# Altium footprint library neg5V.PcbLib: 9 footprints
Each footprint in its own frame and in the unit in brackets; x right, y up, seen from the top. Pads: shape width x height; smd on the part's side, far side on the other; paste and mask are expansions set on the pad; w line width, h text height; cw(c..) or ccw(c..) is an arc to the next point about the centre after c.
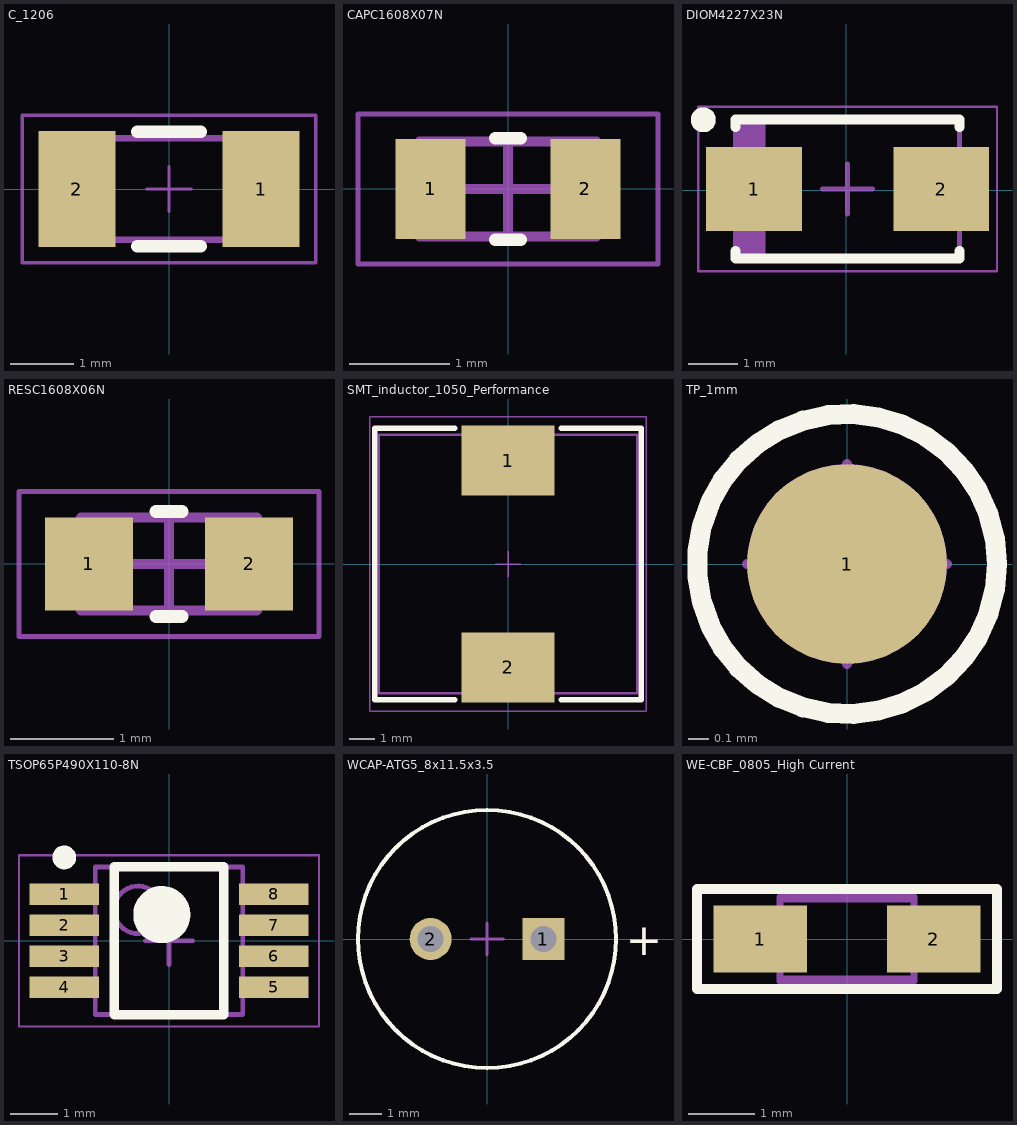
[diagram p0: the footprints below, top view; thin cyan lines are the x and y axes]

## C_1206 [mm]
height 1.8
pads (2):
  rect 1.21x1.82 smd: 1(1.45,0) 2(-1.45,0)
Top Overlay:
  lines w0.2: -0.5,-0.9 0.5,-0.9 ; -0.5,0.9 0.5,0.9
Mechanical 5:
  lines w0.1: -1.1,-0.8 -1.1,0.8 ; 1.1,-0.8 1.1,0.8 ; -1.6,-0.8 1.6,-0.8 1.6,0.8 -1.6,0.8 -1.6,-0.8
  text ".Designator" at 0,0 h1.02
Mechanical 15:
  lines w0.05: -0.35,0 0.35,0 ; 0,-0.35 0,0.35 ; -2.31,-1.16 2.31,-1.16 2.31,1.16 -2.31,1.16 -2.31,-1.16
3D body "User Library-CAPC3216X___CAPC3216X180N.STEP": height 1.82, standoff 0, extent -1.6,-0.81 1.6,0.81

## CAPC1608X07N [mm] "Chip Capacitor, 2-Leads, Body 1,60x0,80mm, IPC Medium Density"
height 0.7
pads (2):
  rect 0.7x1 smd: 1(-0.775,0) 2(0.775,0)
Top Overlay:
  lines w0.127: -0.127,-0.508 0.127,-0.508 ; -0.127,0.508 0.127,0.508
Mechanical 5:
  lines w0.1: -0.885,-0.475 -0.885,0.475 0.885,0.475 0.885,-0.475 -0.885,-0.475
  text ".Designator" at 0,0 h1.02
Mechanical 15:
  lines w0.05: -1.5,-0.75 1.5,-0.75 1.5,0.75 -1.5,0.75 -1.5,-0.75
  lines w0.1: -0.475,0 0.475,0 ; 0,-0.475 0,0.475
3D body: height 0.7, standoff 0, extent 0.435,-0.475 0.885,0.475
3D body: height 0.7, standoff 0, extent -0.885,-0.475 -0.435,0.475
3D body: height 0.7, standoff 0, extent -0.435,-0.475 0.435,0.475

## DIOM4227X23N [mm] "Molded Diode, 2-Leads, Body 4,25x2,67mm, IPC Medium Density"
pads (2):
  rect 1.92x1.68 smd: 1(-1.854,0.023) 2(1.906,0.023)
Top Overlay:
  circle w0.25: c-2.874,1.413 r0.125
  lines w0.2: -2.224,-1.217 -2.224,-1.377 2.276,-1.377 2.276,-1.217 ; -2.224,1.263 -2.224,1.423 2.276,1.423 2.276,1.263
Mechanical 5:
  circle w0.25: c-2.874,1.413 r0.125
  rectangle: -2.224,-1.372 -1.619,1.418
  lines w0.1: -2.224,-1.372 -2.224,1.418 2.276,1.418 2.276,-1.372 -2.224,-1.372
  text ".Designator" at 0,0 h1.02
Mechanical 15:
  lines w0.05: -2.974,-1.627 3.026,-1.627 3.026,1.673 -2.974,1.673 -2.974,-1.627
  lines w0.1: -0.474,0.023 0.526,0.023 ; 0.026,-0.477 0.026,0.523
3D body "DIOM4227X23N.step": height 2.29, standoff 0, extent -2.444,-1.372 2.496,1.418

## RESC1608X06N [mm] "Chip Resistor, 2-Leads, Body 1,60x0,80mm, IPC Medium Density"
height 0.55
pads (2):
  rect 0.85x0.9 smd: 1(-0.775,0) 2(0.775,0)
Top Overlay:
  lines w0.127: -0.127,-0.508 0.127,-0.508 ; -0.127,0.508 0.127,0.508
Mechanical 5:
  lines w0.1: -0.85,-0.45 -0.85,0.45 0.85,0.45 0.85,-0.45 -0.85,-0.45
  text ".Designator" at 0,0 h1.02
Mechanical 15:
  lines w0.05: -1.45,-0.7 -1.45,0.7 1.45,0.7 1.45,-0.7 -1.45,-0.7
  lines w0.1: -0.45,0 0.45,0 ; 0,-0.45 0,0.45
3D body "0603-Rchip.step": height 0.44, standoff -0.01, extent -0.8,-0.4 0.8,0.4

## SMT_inductor_1050_Performance [mm] "SMD Shielded Power Inductor, 2-leads, body 10.3x10.5mm"
height 5
pads (2):
  rect 3.6x2.7 smd: 1(0,4) 2(0,-4)
Top Overlay:
  lines w0.2: -2.05,-5.25 -5.15,-5.25 -5.15,5.25 -2.05,5.25 ; 2.05,-5.25 5.15,-5.25 5.15,5.25 2.05,5.25
Mechanical 5:
  lines w0.1: -5,-5 -5,5 5,5 5,-5 -5,-5
  text ".Designator" at 0,0 h1.02
Mechanical 15:
  lines w0.05: -0.5,0 0.5,0 ; 0,-0.5 0,0.5 ; -5.35,-5.7 -5.35,5.7 5.35,5.7 5.35,-5.7 -5.35,-5.7
3D body "7447714xx.stp": height 4.79, standoff -0.01, extent -5,-5 5,5

## TP_1mm [mm]
pads (1):
  round 1 smd paste-1: 1(0,0)
Top Overlay:
  circle w0.1: c0,0 r0.75
  text ".Comment" at 1.2,-0.7 h1.52
Mechanical 5:
  circle w0.6: c0,0 r0.2
  text ".Designator" at 0,0 h1.02
Mechanical 15:
  circle w0.05: c0,0 r0.75
  lines w0.05: -0.5,0 0.5,0 ; 0,-0.5 0,0.5

## TSOP65P490X110-8N [mm] "TSOP, 8-Leads, Body 3,00x3,00mm, Pitch 0,65mm, IPC Medium Density"
height 1.1
pads (8):
  rect 1.45x0.45 smd: 1(-2.2,0.975) 2(-2.2,0.325) 3(-2.2,-0.325) 4(-2.2,-0.975) 5(2.2,-0.975) 6(2.2,-0.325) 7(2.2,0.325) 8(2.2,0.975)
Top Overlay:
  circle w0.6: c-0.15,0.55 r0.3
  circle w0.25: c-2.2,1.75 r0.125
  lines w0.2: -1.15,-1.55 1.15,-1.55 1.15,1.55 -1.15,1.55 -1.15,-1.55
Mechanical 5:
  circle w0.1: c-0.65,0.65 r0.5
  lines w0.1: -1.55,-1.55 1.55,-1.55 1.55,1.55 -1.55,1.55 -1.55,-1.55
  text ".Designator" at 0,0 h1.02
Mechanical 15:
  lines w0.05: -3.15,-1.8 3.15,-1.8 3.15,1.8 -3.15,1.8 -3.15,-1.8
  lines w0.1: -0.5,0 0.5,0 ; 0,-0.5 0,0.5
3D body: height 1.1, standoff 0.1, extent -1.55,-1.55 1.55,1.55

## WCAP-ATG5_8x11.5x3.5 [mm] "Aluminum Electrolytic Capacitors, 8x11.5mm"
height 11.5
pads (2):
  rect 1.3x1.3 hole 0.8: 1(1.75,0)
  round 1.3 hole 0.8: 2(-1.75,0)
Top Overlay:
  circle w0.127: c0,0 r4
  text "+" at 4.3,-0.5 h1
Mechanical 5:
  circle w0.1: c0,0 r4
  text ".Designator" at -1.016,4.191 h1.02
Mechanical 15:
  lines w0.1: -0.5,0 0.5,0 ; 0,-0.5 0,0.5
3D body "8x11.5x3.5x0.5.stp": height 11.81, standoff -19.91, extent -3.99,-4 4,3.999

## WE-CBF_0805_High Current [mm] "SMD EMI Suppression Ferrite  Bead, body 2.0mmx1.2mm"
height 0.9
pads (2):
  rect 1.4x1 smd: 1(-1.3,0) 2(1.3,0)
Top Overlay:
  lines w0.15: -2.25,-0.75 -2.25,0.75 2.25,0.75 2.25,-0.75 -2.25,-0.75
Mechanical 5:
  lines w0.076: -1.016,-0.635 1.016,-0.635 1.016,0.635 -1.016,0.635 -1.016,-0.635
  text ".Designator" at 0,0 h1.02
Mechanical 15:
  lines w0.1: -1,-0.6 -1,0.6 1,0.6 1,-0.6 -1,-0.6
3D body "WE-CBF_0805_CBF.stp": height 0.93, standoff 0.03, extent -1,-0.6 1,0.6